# EAGLE library part MAX15019A (library balto)
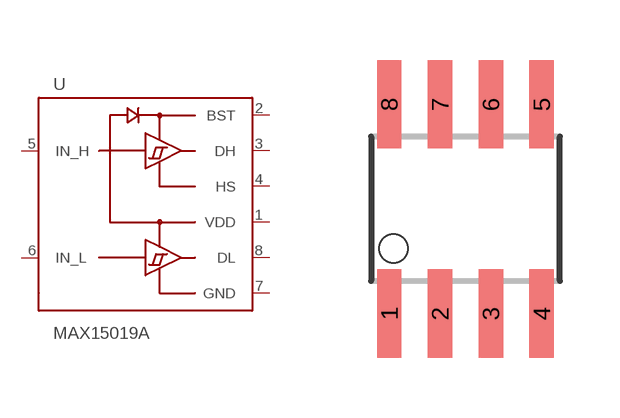
[diagram p23: symbol with the pads of SO08; footprint SO08]

Designator prefix U

## MAX15019A  [SO08]
1  VDD
2  BST
3  DH
4  HS
5  IN_H
6  IN_L
7  GND
8  DL

## Footprint SO08 (pad centres in mm)
Small Outline Package
smd 0.61 x 2.21: 1 -1.905,-2.616; 2 -0.635,-2.616; 3 0.635,-2.616; 4 1.905,-2.616; 5 1.905,2.616; 6 0.635,2.616; 7 -0.635,2.616; 8 -1.905,2.616